# Altium footprint library MeiG.PcbLib: 1 footprints
Each footprint in its own frame and in the unit in brackets; x right, y up, seen from the top. Pads: shape width x height; smd on the part's side, far side on the other; paste and mask are expansions set on the pad; w line width, h text height; cw(c..) or ccw(c..) is an arc to the next point about the centre after c.
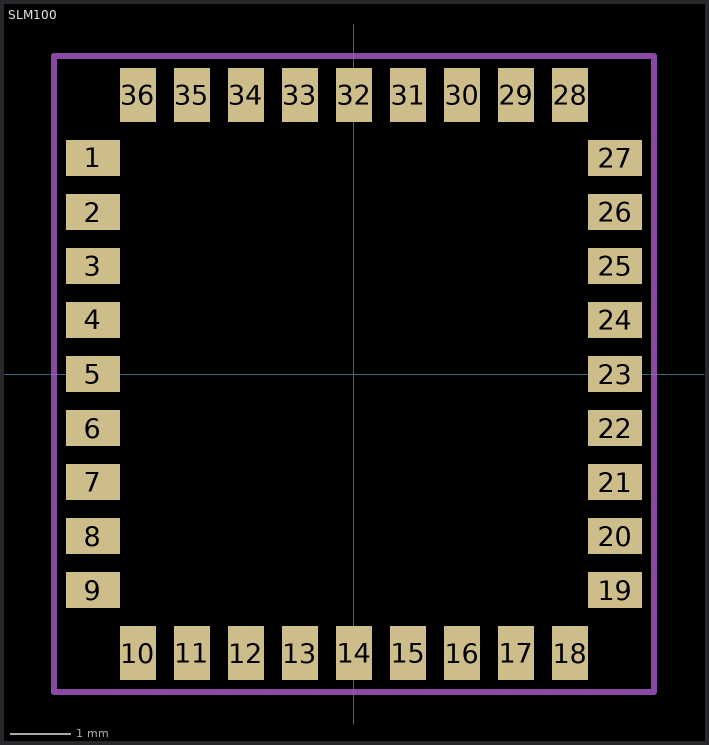
[diagram p0: the footprint, top view; thin cyan lines are the x and y axes]

## SLM100 [mm]
pads (36):
  rect 0.9x0.6 smd: 1(-4.35,3.6) 2(-4.35,2.697) 3(-4.35,1.8) 4(-4.35,0.9) 5(-4.35,0) 6(-4.35,-0.9) 7(-4.35,-1.8) 8(-4.35,-2.7) 9(-4.35,-3.6) 19(4.35,-3.6) 20(4.35,-2.7) 21(4.35,-1.8) 22(4.35,-0.9) 23(4.35,0) 24(4.35,0.9) 25(4.35,1.8) 26(4.35,2.7) 27(4.35,3.6)
  rect 0.6x0.9 smd: 10(-3.6,-4.65) 11(-2.7,-4.65) 12(-1.8,-4.65) 13(-0.9,-4.65) 14(0,-4.65) 15(0.9,-4.65) 16(1.8,-4.65) 17(2.7,-4.65) 18(3.6,-4.65) 28(3.6,4.65) 29(2.7,4.65) 30(1.8,4.65) 31(0.9,4.65) 32(0,4.65) 33(-0.9,4.65) 34(-1.8,4.65) 35(-2.7,4.65) 36(-3.6,4.65)
Mechanical 13:
  lines w0.1: -5,-5.3 -5,5.3 5,5.3 5,-5.3 -5,-5.3
3D body "SLM100.STEP": height 2.2, standoff -0.05, extent -5,-5.3 5,5.3